# Altium schematic symbol library Pezoelectric.SchLib: 3 symbols
Pins are listed as number, name and electrical type; pins without a type are passive.

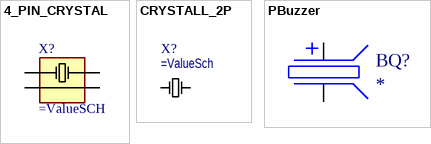
[diagram p0: symbols 4_PIN_CRYSTAL to PBuzzer]

## 4_PIN_CRYSTAL
designator X?
3*2.5 mm SMD Crystall
pins: 1, 2, 3, 4

## CRYSTALL_2P
designator X?
Crystall
pins: 1, 2

## PBuzzer
designator BQ?
Piezo Buzzer; Valuesch: *
pins: GND (power), Vcc + (power) "Power supply"
1 alternate drawing of the same symbol